# Altium footprint library 2022-03-20_17-57-44.PcbLib: 12 footprints
Each footprint in its own frame and in the unit in brackets; x right, y up, seen from the top. Pads: shape width x height; smd on the part's side, far side on the other; paste and mask are expansions set on the pad; w line width, h text height; cw(c..) or ccw(c..) is an arc to the next point about the centre after c.
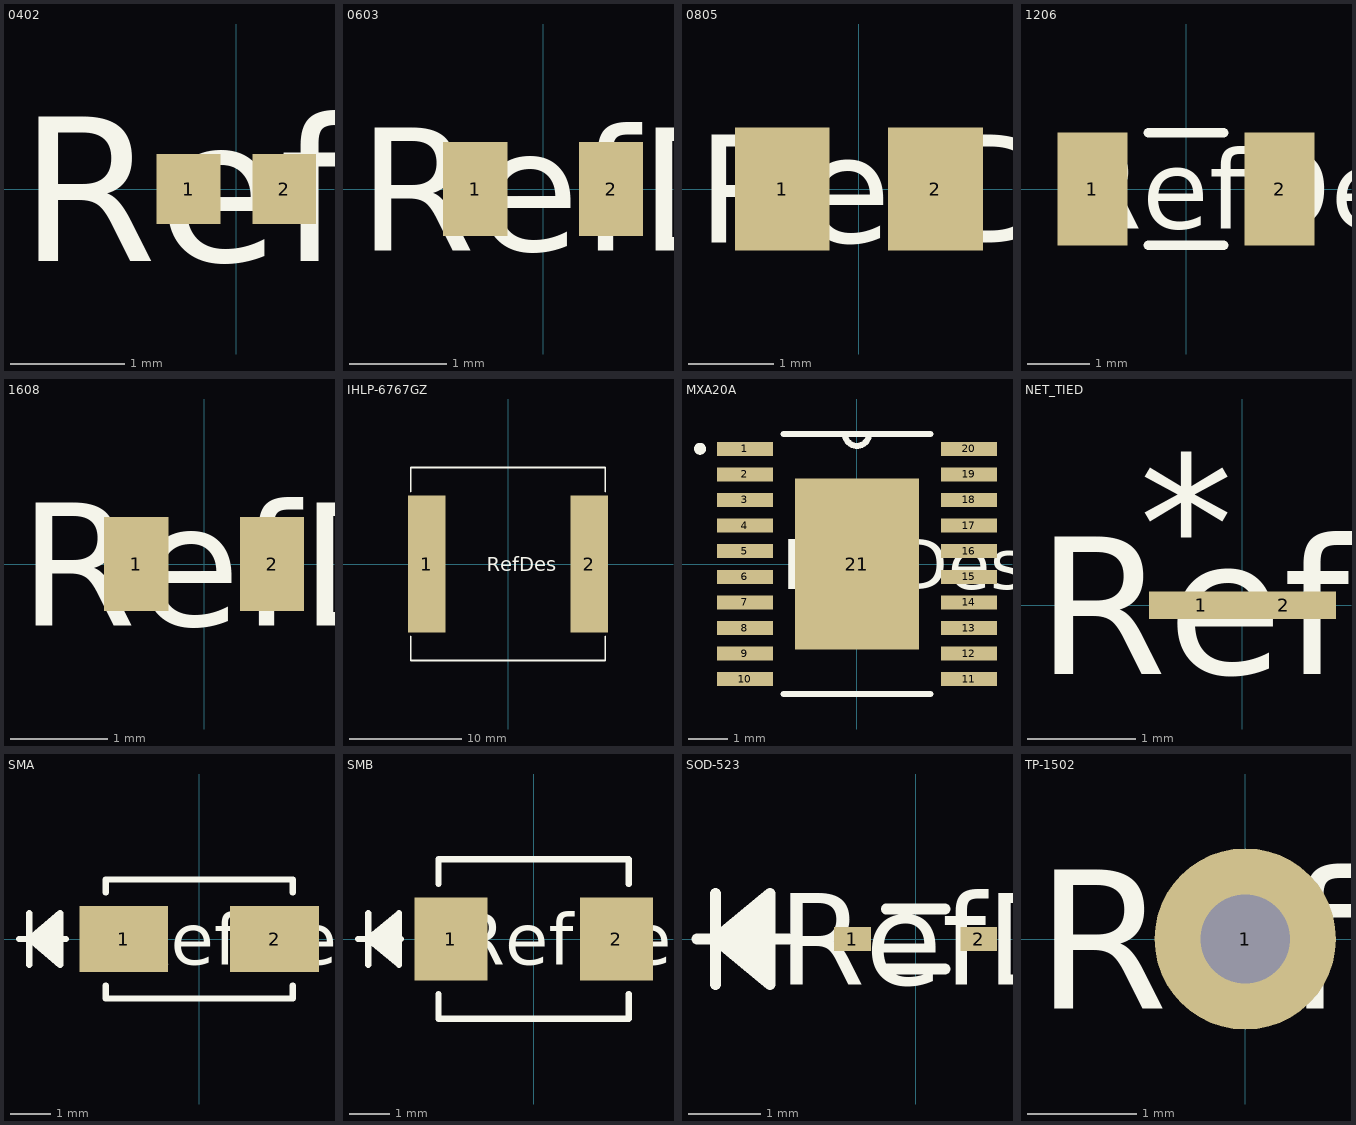
[diagram p0: the footprints below, top view; thin cyan lines are the x and y axes]

## 0402 [mil]
pads (2):
  rect 22x24 smd: 1(-16.5,0) 2(16.5,0)
Top Overlay:
  text "RefDes" at -75,-25 h50
3D body: height 10, standoff 0, extent 0,0 10,10

## 0603 [mil]
pads (2):
  rect 26x38 smd: 1(-27.5,0) 2(27.5,0)
Top Overlay:
  text "RefDes" at -75,-25 h50
3D body: height 10, standoff 0, extent 0,0 10,10

## 0805 [mil]
pads (2):
  rect 44x57 smd: 1(-35.5,0) 2(35.5,0)
Top Overlay:
  text "RefDes" at -75,-25 h50
3D body: height 10, standoff 0, extent 0,0 10,10

## 1206 [mil]
pads (2):
  rect 44x71 smd: 1(-59,0) 2(59,0)
Top Overlay:
  lines w6: -23.9,-35.5 23.9,-35.5 ; -23.9,35.5 23.9,35.5
  text "RefDes" at -75,-25 h50
3D body: height 10, standoff 0, extent 0,0 10,10

## 1608 [mil]
pads (2):
  rect 26x38 smd: 1(-27.5,0) 2(27.5,0)
Top Overlay:
  text "RefDes" at -75,-25 h50
3D body: height 10, standoff 0, extent 0,0 10,10

## IHLP-6767GZ [mil]
pads (2):
  rect 131x480 smd: 1(-284.5,0) 2(284.5,0)
Top Overlay:
  lines w6: -340,-253.1 -340,-337.5 340,-337.5 340,-253.1 ; -340,253.1 -340,337.5 340,337.5 340,253.1
  text "RefDes" at -75,-25 h50
3D body: height 10, standoff 0, extent 0,0 10,10

## MXA20A [mil]
pads (21):
  rect 56x14 smd: 1(-112,115.16) 2(-112,89.57) 3(-112,63.98) 4(-112,38.39) 5(-112,12.8) 6(-112,-12.8) 7(-112,-38.39) 8(-112,-63.98) 9(-112,-89.57) 10(-112,-115.16) 11(112,-115.16) 12(112,-89.57) 13(112,-63.98) 14(112,-38.39) 15(112,-12.8) 16(112,12.8) 17(112,38.39) 18(112,63.98) 19(112,89.57) 20(112,115.16)
  rect 124x171 smd: 21(0,0)
Top Overlay:
  circle w6: c-156.8,115.16 r3
  lines w6: -73.51,-130 73.51,-130 ; -73.51,130 73.51,130 ; -12,130 ccw(c0,130) 12,130
  text "RefDes" at -75,-25 h50
3D body: height 10, standoff 0, extent 0,0 10,10

## NET_TIED [mil]
pads (2):
  rect 38x10 smd mask+0: 1(-15,0) 2(15,0)
Top Overlay:
  text "*" at -37.5,5 h50
  text "RefDes" at -75,-25 h50
3D body: height 10, standoff 0, extent 0,0 10,10

## SMA [mil]
pads (2):
  rect 86x64 smd: 1(-73,0) 2(73,0)
Top Overlay:
  lines w6: -174.5,0 -129.1,0 ; -164.5,-25 -164.5,25 ; -134.5,-20 -164.5,0 ; -134.5,-15 -164.5,0 ; -134.5,-10 -164.5,0 ; -134.5,-5 -164.5,0 ; -134.5,5 -164.5,0 ; -134.5,10 -164.5,0 ; -134.5,15 -164.5,0 ; -134.5,20 -164.5,0 ; -90.5,-45.1 -90.5,-57.5 90.5,-57.5 90.5,-45.1 ; -90.5,45.1 -90.5,57.5 90.5,57.5 90.5,45.1 ; -164.5,0 -134.5,25 -134.5,-25 -164.5,0
  text "RefDes" at -75,-25 h50
3D body: height 10, standoff 0, extent 0,0 10,10

## SMB [mil]
pads (2):
  rect 71x81 smd: 1(-80.5,0) 2(80.5,0)
Top Overlay:
  lines w6: -170.75,0 -129.1,0 ; -160.75,-25 -160.75,25 ; -130.75,-20 -160.75,0 ; -130.75,-15 -160.75,0 ; -130.75,-10 -160.75,0 ; -130.75,-5 -160.75,0 ; -130.75,5 -160.75,0 ; -130.75,10 -160.75,0 ; -130.75,15 -160.75,0 ; -130.75,20 -160.75,0 ; -92.5,-53.6 -92.5,-77.5 92.5,-77.5 92.5,-53.6 ; -92.5,53.6 -92.5,77.5 92.5,77.5 92.5,53.6 ; -160.75,0 -130.75,25 -130.75,-25 -160.75,0
  text "RefDes" at -75,-25 h50
3D body: height 10, standoff 0, extent 0,0 10,10

## SOD-523 [mil]
pads (2):
  rect 20x13 smd: 1(-34.5,0) 2(34.5,0)
Top Overlay:
  lines w6: -119.5,0 -69.5,0 ; -109.5,-25 -109.5,25 ; -79.5,-20 -109.5,0 ; -79.5,-15 -109.5,0 ; -79.5,-10 -109.5,0 ; -79.5,-5 -109.5,0 ; -79.5,5 -109.5,0 ; -79.5,10 -109.5,0 ; -79.5,15 -109.5,0 ; -79.5,20 -109.5,0 ; -16.04,-16.5 16.04,-16.5 ; -16.04,16.5 16.04,16.5 ; -109.5,0 -79.5,25 -79.5,-25 -109.5,0
  text "RefDes" at -75,-25 h50
3D body: height 10, standoff 0, extent 0,0 10,10

## TP-1502 [mil]
pads (1):
  round 65 / inner round 60 / far side round 65 hole 32: 1(0,0)
Top Overlay:
  text "RefDes" at -75,-25 h50
3D body: height 10, standoff 0, extent 0,0 10,10